# Altium footprint library CP2104-F03-GM.PcbLib: 1 footprints
Each footprint in its own frame and in the unit in brackets; x right, y up, seen from the top. Pads: shape width x height; smd on the part's side, far side on the other; paste and mask are expansions set on the pad; w line width, h text height; cw(c..) or ccw(c..) is an arc to the next point about the centre after c.
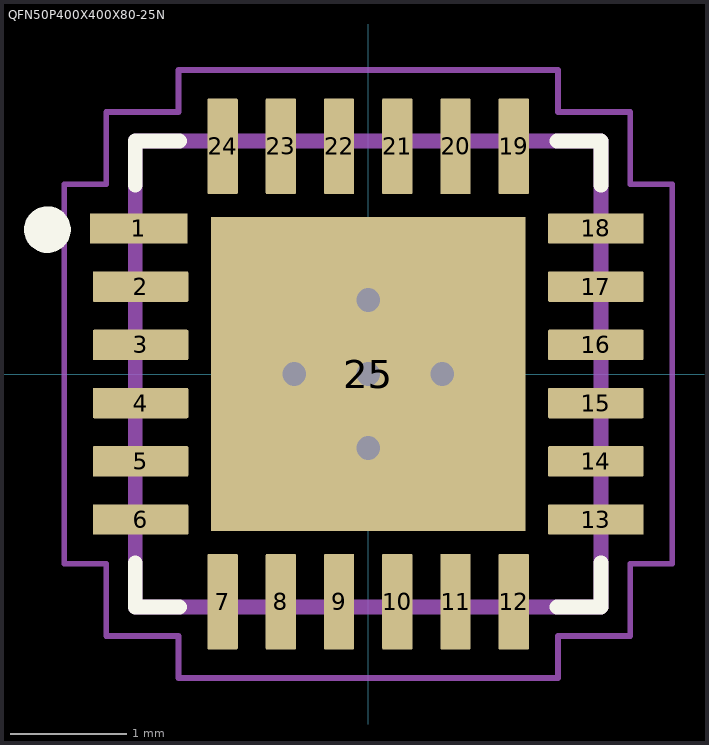
[diagram p0: the footprint, top view; thin cyan lines are the x and y axes]

## QFN50P400X400X80-25N [mm]
pads (25):
  rrect7% 0.84x0.26 smd mask+0.051: 1(-1.97,1.25)
  rrect7% 0.82x0.26 smd mask+0.051: 2(-1.955,0.75) 3(-1.955,0.25) 4(-1.955,-0.25) 5(-1.955,-0.75) 6(-1.955,-1.25) 13(1.955,-1.25) 14(1.955,-0.75) 15(1.955,-0.25) 16(1.955,0.25) 17(1.955,0.75) 18(1.955,1.25)
  rrect7% 0.26x0.82 smd mask+0.051: 7(-1.25,-1.955) 8(-0.75,-1.955) 9(-0.25,-1.955) 10(0.25,-1.955) 11(0.75,-1.955) 12(1.25,-1.955) 19(1.25,1.955) 20(0.75,1.955) 21(0.25,1.955) 22(-0.25,1.955) 23(-0.75,1.955) 24(-1.25,1.955)
  rect 2.7x2.7 smd paste-2 mask+0.051: 25(0,0)
via 0,0 diameter 0.406 hole 0.203
via 0,0.635 diameter 0.406 hole 0.203
via -0.635,0 diameter 0.406 hole 0.203
via 0.635,0 diameter 0.406 hole 0.203
via 0,-0.635 diameter 0.406 hole 0.203
Top Overlay:
  circle w0.2: c-2.754,1.24 r0.1
  lines w0.127: -2,-1.62 -2,-2 -1.62,-2 ; -2,1.62 -2,2 -1.62,2 ; 1.62,-2 2,-2 2,-1.62 ; 1.62,2 2,2 2,1.62
Top Paste:
  rectangle: 0.127,-1.143 1.143,-0.127
  rectangle: -1.143,-1.143 -0.127,-0.127
  rectangle: 0.127,0.127 1.143,1.143
  rectangle: -1.143,0.127 -0.127,1.143
Mechanical 13:
  lines w0.127: -2,-2 2,-2 2,2 -2,2 -2,-2
Mechanical 15:
  lines w0.05: -2.61,-1.63 -2.61,1.63 -2.25,1.63 -2.25,2.25 -1.63,2.25 -1.63,2.61 1.63,2.61 1.63,2.25 2.25,2.25 2.25,1.63 2.61,1.63 2.61,-1.63 2.25,-1.63 2.25,-2.25 1.63,-2.25 1.63,-2.61 -1.63,-2.61 -1.63,-2.25 -2.25,-2.25 -2.25,-1.63 -2.61,-1.63
3D body "step_temp.STEP": height 0.8, standoff 0, extent -2,-2 2,2